# Altium schematic symbol library kmilo17pet-LT_OpAmp_LT1000.SchLib: 2280 symbols (part 68 of 79)
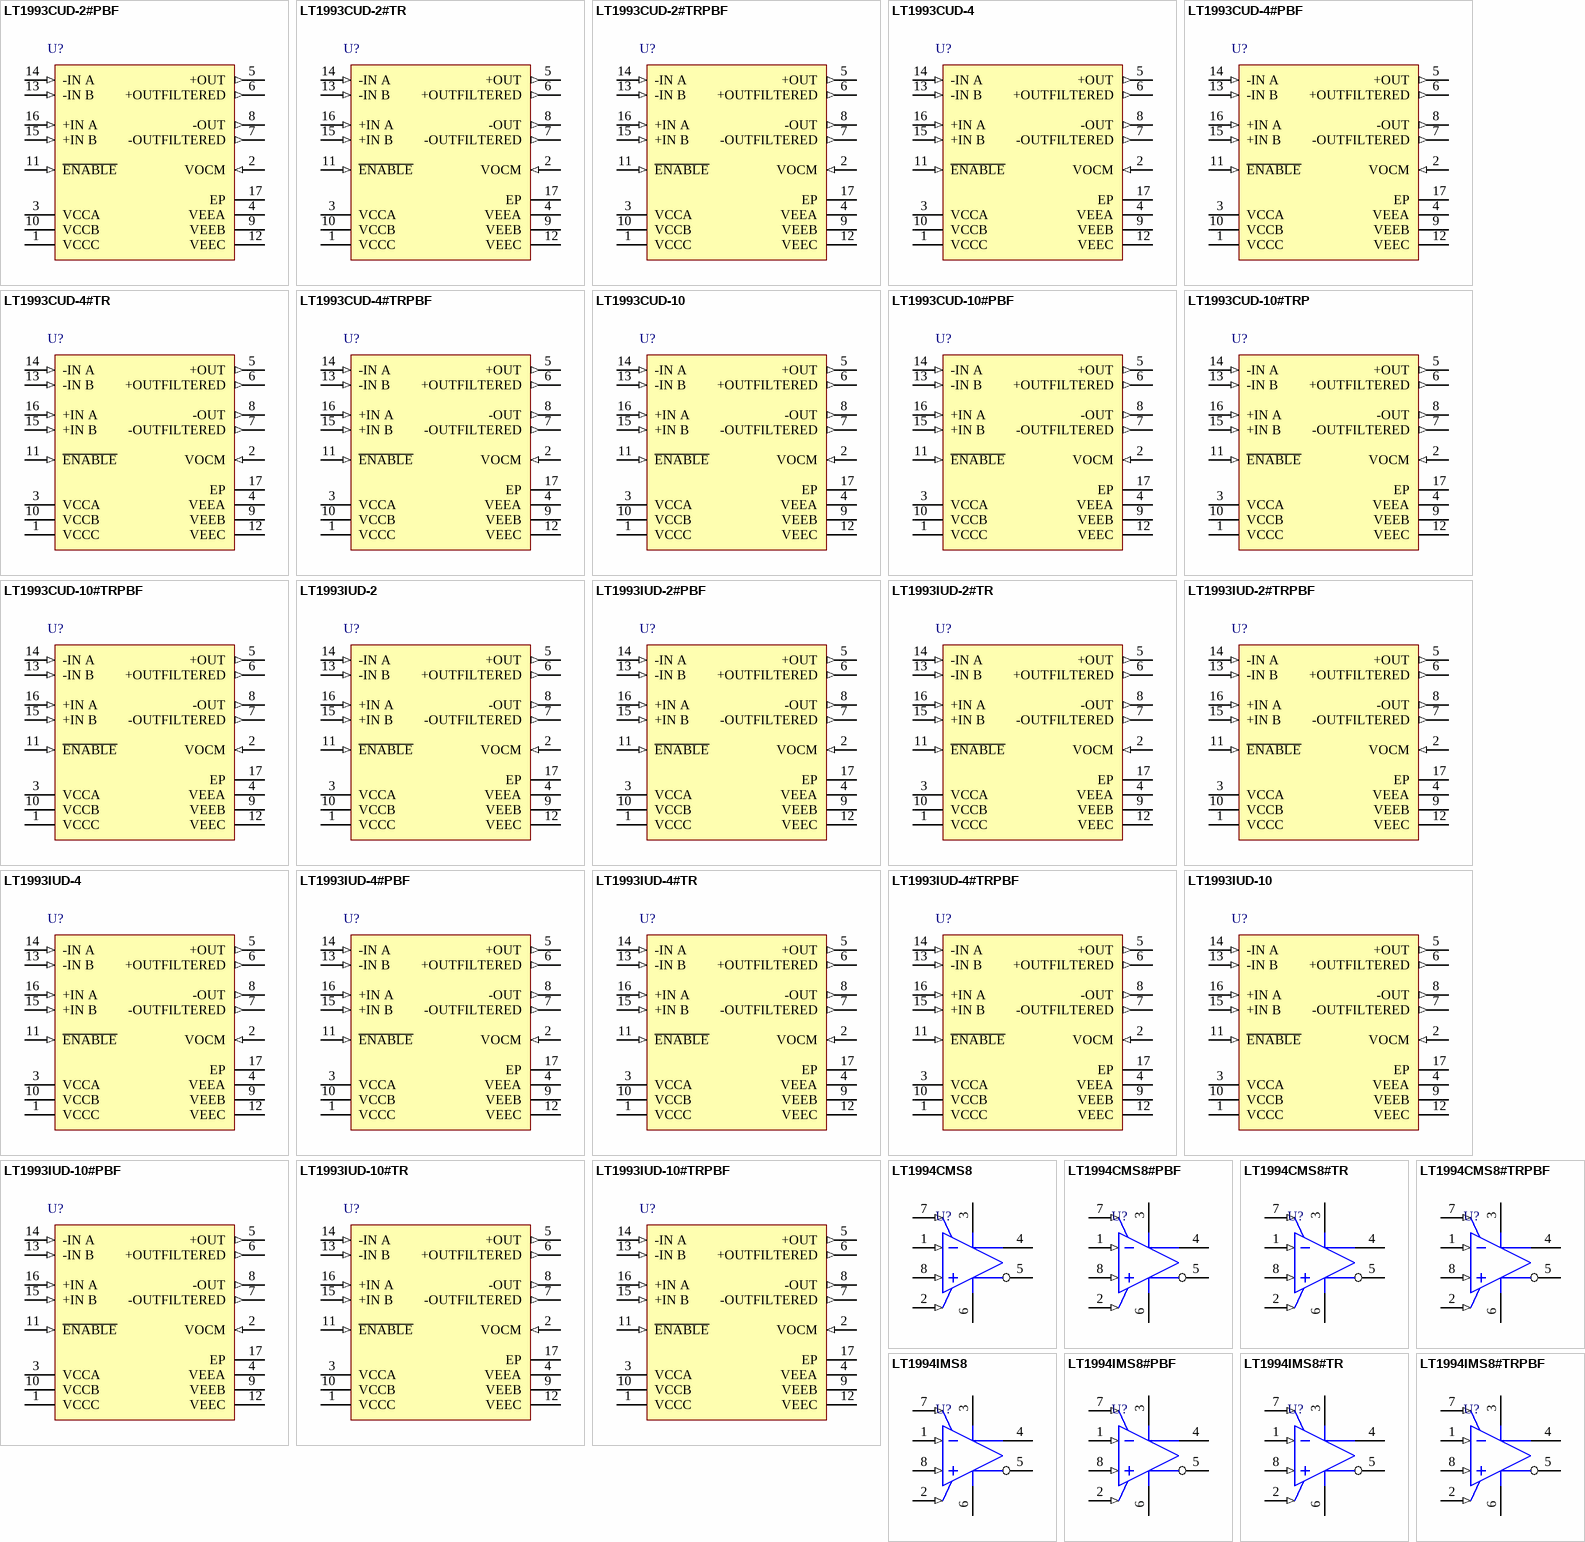
[diagram p172: symbols LT1993CUD-2#PBF to LT1994IMS8#TRPBF]

## LT1993IUD-10
designator U?
Single Channel, Low Distortion, Low Noise Differential Amplifier/ADC Driver, Av = 10, 700 MHz Typical GBW, 1100 V/us Typical SR, 4 to 5.5 V, 16-Pin QFN (UD-16), Industrial; Linear Technology Part Number: LT1993-10; Manufacturer: Linear Technology; PartNumber: LT1993IUD-10; Channels (#): 1; GBW (MHz) Typical: 700; Is (mA) Typical: 100; SR (V/us) Typical: 1100; Vos (mV) Guaranteed: 6.5; Vs Max (V): 5.5; Vs Min (V): 4; DatasheetVersion: Rev. B; PackageReference: LT-UD-16; PackageDescription: 16-Lead Plastic QFN, Body 3.00 x 3.00 mm, Pitch 0.5 mm; Type: DIFF; Vos (mV) Typical: 1; Mounting Technology: Surface Mount; Code_JEDEC: MO-220; ComponentLink1Description: Manufacturer URL; ComponentLink1URL: http://www.linear.com/; ComponentLink2Description: Datasheet; ComponentLink2URL: http://cds.linear.com/docs/en/datasheet/199310fb.pdf; ComponentLink3Description: Package Specification; ComponentLink3URL: http://cds.linear.com/docs/en/packaging/QFN_16_05-08-1691.pdf
footprint LT-UD-16_N (QFN, 16-Leads, Body 3x3mm, Pitch 0.5mm, Thermal Pad 1.45x1.45mm, IPC Medium Density)
footprint LT-UD-16_L (QFN, 16-Leads, Body 3x3mm, Pitch 0.5mm, Thermal Pad 1.45x1.45mm, IPC High Density)
footprint LT-UD-16_M (QFN, 16-Leads, Body 3x3mm, Pitch 0.5mm, Thermal Pad 1.45x1.45mm, IPC Low Density)
pins: 1 VCCC (power) "Positive Power Supply (Normally Tied to 5V). All three pins must be tied to the same voltage. Bypass each pin with 1000pF and 0.1uF capacitors as close to the package as possible. Split supplies are possible as long as the (See Datasheet)", 2 VOCM (in) "This pin sets the output common mode voltage. Without additional biasing, both inputs bias to this voltage as well. This input is high impedance.", 3 VCCA (power) "Positive Power Supply (Normally Tied to 5V). All three pins must be tied to the same voltage. Bypass each pin with 1000pF and 0.1uF capacitors as close to the package as possible. Split supplies are possible as long as the (See Datasheet)", 4 VEEA (power) "Negative Power Supply (Normally Tied to Ground). All three pins must be tied to the same voltage. Split supplies are possible as long as the voltage between VCC and VEE is 5V. If these pins are not tied to ground, bypass (See Datasheet)", 5 +OUT (out) "Outputs (Unfi ltered). These pins are high bandwidth, low-impedance outputs. The DC output voltage at these pins is set to the voltage applied at VOCM.", 6 +OUTFILTERED (out) "Filtered Outputs. These pins add a series 25ohm resistor from the unfi ltered outputs and three 12pF capacitors. Each output has 12pF to VEE, plus an additional 12pF between each pin (See the Block Diagram). This fi lter has (See Datasheet)", 7 -OUTFILTERED (out) "Filtered Outputs. These pins add a series 25ohm resistor from the unfi ltered outputs and three 12pF capacitors. Each output has 12pF to VEE, plus an additional 12pF between each pin (See the Block Diagram). This fi lter has (See Datasheet)", 8 -OUT (out) "Outputs (Unfi ltered). These pins are high bandwidth, low-impedance outputs. The DC output voltage at these pins is set to the voltage applied at VOCM.", 9 VEEB (power) "Negative Power Supply (Normally Tied to Ground). All three pins must be tied to the same voltage. Split supplies are possible as long as the voltage between VCC and VEE is 5V. If these pins are not tied to ground, bypass (See Datasheet)", 10 VCCB (power) "Positive Power Supply (Normally Tied to 5V). All three pins must be tied to the same voltage. Bypass each pin with 1000pF and 0.1uF capacitors as close to the package as possible. Split supplies are possible as long as the (See Datasheet)", 11 ~{ENABLE} (in) "This pin is a TTL logic input referenced to the VEEC pin. If low, the LT1993-10 is enabled and draws typically 100mA of supply current. If high, the LT1993-10 is disabled and draws typically 250uA.", 12 VEEC (power) "Negative Power Supply (Normally Tied to Ground). All three pins must be tied to the same voltage. Split supplies are possible as long as the voltage between VCC and VEE is 5V. If these pins are not tied to ground, bypass (See Datasheet)", 13 -IN B (in) "Negative Inputs. These pins are normally tied together. These inputs may be DC- or ACcoupled. If the inputs are AC-coupled, they will self-bias to the voltage applied to the VOCM pin.", 14 -IN A (in) "Negative Inputs. These pins are normally tied together. These inputs may be DC- or ACcoupled. If the inputs are AC-coupled, they will self-bias to the voltage applied to the VOCM pin.", 15 +IN B (in) "Positive Inputs. These pins are normally tied together. These inputs may be DC- or ACcoupled. If the inputs are AC-coupled, they will self-bias to the voltage applied to the VOCM pin.", 16 +IN A (in) "Positive Inputs. These pins are normally tied together. These inputs may be DC- or ACcoupled. If the inputs are AC-coupled, they will self-bias to the voltage applied to the VOCM pin.", 17 EP (power) "Tie the pad to VEEC (Pin 12). If split supplies are used, DO NOT tie the pad to ground."

## LT1993IUD-10#PBF
designator U?
Single Channel, Low Distortion, Low Noise Differential Amplifier/ADC Driver, Av = 10, 700 MHz Typical GBW, 1100 V/us Typical SR, 4 to 5.5 V, 16-Pin QFN (UD-16), Industrial, Pb-Free; Linear Technology Part Number: LT1993-10; Manufacturer: Linear Technology; PartNumber: LT1993IUD-10#PBF; Channels (#): 1; GBW (MHz) Typical: 700; Is (mA) Typical: 100; SR (V/us) Typical: 1100; Vos (mV) Guaranteed: 6.5; Vs Max (V): 5.5; Vs Min (V): 4; DatasheetVersion: Rev. B; PackageReference: LT-UD-16; PackageDescription: 16-Lead Plastic QFN, Body 3.00 x 3.00 mm, Pitch 0.5 mm; Supplier 1: Digi-Key; Supplier Part Number 1: LT1993IUD-10#PBF-ND; Supplier 2: Farnell; Supplier Part Number 2: 1345614; Supplier 3: Newark; Supplier Part Number 3: 57M7723; RoHS: Pb-Free; Type: DIFF; Vos (mV) Typical: 1; Mounting Technology: Surface Mount; Code_JEDEC: MO-220; ComponentLink1Description: Manufacturer URL; ComponentLink1URL: http://www.linear.com/; ComponentLink2Description: Datasheet; ComponentLink2URL: http://cds.linear.com/docs/en/datasheet/199310fb.pdf; ComponentLink3Description: Package Specification; ComponentLink3URL: http://cds.linear.com/docs/en/packaging/QFN_16_05-08-1691.pdf
footprint LT-UD-16_N (QFN, 16-Leads, Body 3x3mm, Pitch 0.5mm, Thermal Pad 1.45x1.45mm, IPC Medium Density)
footprint LT-UD-16_L (QFN, 16-Leads, Body 3x3mm, Pitch 0.5mm, Thermal Pad 1.45x1.45mm, IPC High Density)
footprint LT-UD-16_M (QFN, 16-Leads, Body 3x3mm, Pitch 0.5mm, Thermal Pad 1.45x1.45mm, IPC Low Density)
pins: 1 VCCC (power) "Positive Power Supply (Normally Tied to 5V). All three pins must be tied to the same voltage. Bypass each pin with 1000pF and 0.1uF capacitors as close to the package as possible. Split supplies are possible as long as the (See Datasheet)", 2 VOCM (in) "This pin sets the output common mode voltage. Without additional biasing, both inputs bias to this voltage as well. This input is high impedance.", 3 VCCA (power) "Positive Power Supply (Normally Tied to 5V). All three pins must be tied to the same voltage. Bypass each pin with 1000pF and 0.1uF capacitors as close to the package as possible. Split supplies are possible as long as the (See Datasheet)", 4 VEEA (power) "Negative Power Supply (Normally Tied to Ground). All three pins must be tied to the same voltage. Split supplies are possible as long as the voltage between VCC and VEE is 5V. If these pins are not tied to ground, bypass (See Datasheet)", 5 +OUT (out) "Outputs (Unfi ltered). These pins are high bandwidth, low-impedance outputs. The DC output voltage at these pins is set to the voltage applied at VOCM.", 6 +OUTFILTERED (out) "Filtered Outputs. These pins add a series 25ohm resistor from the unfi ltered outputs and three 12pF capacitors. Each output has 12pF to VEE, plus an additional 12pF between each pin (See the Block Diagram). This fi lter has (See Datasheet)", 7 -OUTFILTERED (out) "Filtered Outputs. These pins add a series 25ohm resistor from the unfi ltered outputs and three 12pF capacitors. Each output has 12pF to VEE, plus an additional 12pF between each pin (See the Block Diagram). This fi lter has (See Datasheet)", 8 -OUT (out) "Outputs (Unfi ltered). These pins are high bandwidth, low-impedance outputs. The DC output voltage at these pins is set to the voltage applied at VOCM.", 9 VEEB (power) "Negative Power Supply (Normally Tied to Ground). All three pins must be tied to the same voltage. Split supplies are possible as long as the voltage between VCC and VEE is 5V. If these pins are not tied to ground, bypass (See Datasheet)", 10 VCCB (power) "Positive Power Supply (Normally Tied to 5V). All three pins must be tied to the same voltage. Bypass each pin with 1000pF and 0.1uF capacitors as close to the package as possible. Split supplies are possible as long as the (See Datasheet)", 11 ~{ENABLE} (in) "This pin is a TTL logic input referenced to the VEEC pin. If low, the LT1993-10 is enabled and draws typically 100mA of supply current. If high, the LT1993-10 is disabled and draws typically 250uA.", 12 VEEC (power) "Negative Power Supply (Normally Tied to Ground). All three pins must be tied to the same voltage. Split supplies are possible as long as the voltage between VCC and VEE is 5V. If these pins are not tied to ground, bypass (See Datasheet)", 13 -IN B (in) "Negative Inputs. These pins are normally tied together. These inputs may be DC- or ACcoupled. If the inputs are AC-coupled, they will self-bias to the voltage applied to the VOCM pin.", 14 -IN A (in) "Negative Inputs. These pins are normally tied together. These inputs may be DC- or ACcoupled. If the inputs are AC-coupled, they will self-bias to the voltage applied to the VOCM pin.", 15 +IN B (in) "Positive Inputs. These pins are normally tied together. These inputs may be DC- or ACcoupled. If the inputs are AC-coupled, they will self-bias to the voltage applied to the VOCM pin.", 16 +IN A (in) "Positive Inputs. These pins are normally tied together. These inputs may be DC- or ACcoupled. If the inputs are AC-coupled, they will self-bias to the voltage applied to the VOCM pin.", 17 EP (power) "Tie the pad to VEEC (Pin 12). If split supplies are used, DO NOT tie the pad to ground."

## LT1993IUD-10#TR
designator U?
Single Channel, Low Distortion, Low Noise Differential Amplifier/ADC Driver, Av = 10, 700 MHz Typical GBW, 1100 V/us Typical SR, 4 to 5.5 V, 16-Pin QFN (UD-16), Industrial, Reel; Linear Technology Part Number: LT1993-10; Manufacturer: Linear Technology; PartNumber: LT1993IUD-10#TR; Channels (#): 1; GBW (MHz) Typical: 700; Is (mA) Typical: 100; SR (V/us) Typical: 1100; Vos (mV) Guaranteed: 6.5; Vs Max (V): 5.5; Vs Min (V): 4; DatasheetVersion: Rev. B; PackageReference: LT-UD-16; PackageDescription: 16-Lead Plastic QFN, Body 3.00 x 3.00 mm, Pitch 0.5 mm; Packing: Reel; Type: DIFF; Vos (mV) Typical: 1; Mounting Technology: Surface Mount; Code_JEDEC: MO-220; ComponentLink1Description: Manufacturer URL; ComponentLink1URL: http://www.linear.com/; ComponentLink2Description: Datasheet; ComponentLink2URL: http://cds.linear.com/docs/en/datasheet/199310fb.pdf; ComponentLink3Description: Package Specification; ComponentLink3URL: http://cds.linear.com/docs/en/packaging/QFN_16_05-08-1691.pdf
footprint LT-UD-16_N (QFN, 16-Leads, Body 3x3mm, Pitch 0.5mm, Thermal Pad 1.45x1.45mm, IPC Medium Density)
footprint LT-UD-16_L (QFN, 16-Leads, Body 3x3mm, Pitch 0.5mm, Thermal Pad 1.45x1.45mm, IPC High Density)
footprint LT-UD-16_M (QFN, 16-Leads, Body 3x3mm, Pitch 0.5mm, Thermal Pad 1.45x1.45mm, IPC Low Density)
pins: 1 VCCC (power) "Positive Power Supply (Normally Tied to 5V). All three pins must be tied to the same voltage. Bypass each pin with 1000pF and 0.1uF capacitors as close to the package as possible. Split supplies are possible as long as the (See Datasheet)", 2 VOCM (in) "This pin sets the output common mode voltage. Without additional biasing, both inputs bias to this voltage as well. This input is high impedance.", 3 VCCA (power) "Positive Power Supply (Normally Tied to 5V). All three pins must be tied to the same voltage. Bypass each pin with 1000pF and 0.1uF capacitors as close to the package as possible. Split supplies are possible as long as the (See Datasheet)", 4 VEEA (power) "Negative Power Supply (Normally Tied to Ground). All three pins must be tied to the same voltage. Split supplies are possible as long as the voltage between VCC and VEE is 5V. If these pins are not tied to ground, bypass (See Datasheet)", 5 +OUT (out) "Outputs (Unfi ltered). These pins are high bandwidth, low-impedance outputs. The DC output voltage at these pins is set to the voltage applied at VOCM.", 6 +OUTFILTERED (out) "Filtered Outputs. These pins add a series 25ohm resistor from the unfi ltered outputs and three 12pF capacitors. Each output has 12pF to VEE, plus an additional 12pF between each pin (See the Block Diagram). This fi lter has (See Datasheet)", 7 -OUTFILTERED (out) "Filtered Outputs. These pins add a series 25ohm resistor from the unfi ltered outputs and three 12pF capacitors. Each output has 12pF to VEE, plus an additional 12pF between each pin (See the Block Diagram). This fi lter has (See Datasheet)", 8 -OUT (out) "Outputs (Unfi ltered). These pins are high bandwidth, low-impedance outputs. The DC output voltage at these pins is set to the voltage applied at VOCM.", 9 VEEB (power) "Negative Power Supply (Normally Tied to Ground). All three pins must be tied to the same voltage. Split supplies are possible as long as the voltage between VCC and VEE is 5V. If these pins are not tied to ground, bypass (See Datasheet)", 10 VCCB (power) "Positive Power Supply (Normally Tied to 5V). All three pins must be tied to the same voltage. Bypass each pin with 1000pF and 0.1uF capacitors as close to the package as possible. Split supplies are possible as long as the (See Datasheet)", 11 ~{ENABLE} (in) "This pin is a TTL logic input referenced to the VEEC pin. If low, the LT1993-10 is enabled and draws typically 100mA of supply current. If high, the LT1993-10 is disabled and draws typically 250uA.", 12 VEEC (power) "Negative Power Supply (Normally Tied to Ground). All three pins must be tied to the same voltage. Split supplies are possible as long as the voltage between VCC and VEE is 5V. If these pins are not tied to ground, bypass (See Datasheet)", 13 -IN B (in) "Negative Inputs. These pins are normally tied together. These inputs may be DC- or ACcoupled. If the inputs are AC-coupled, they will self-bias to the voltage applied to the VOCM pin.", 14 -IN A (in) "Negative Inputs. These pins are normally tied together. These inputs may be DC- or ACcoupled. If the inputs are AC-coupled, they will self-bias to the voltage applied to the VOCM pin.", 15 +IN B (in) "Positive Inputs. These pins are normally tied together. These inputs may be DC- or ACcoupled. If the inputs are AC-coupled, they will self-bias to the voltage applied to the VOCM pin.", 16 +IN A (in) "Positive Inputs. These pins are normally tied together. These inputs may be DC- or ACcoupled. If the inputs are AC-coupled, they will self-bias to the voltage applied to the VOCM pin.", 17 EP (power) "Tie the pad to VEEC (Pin 12). If split supplies are used, DO NOT tie the pad to ground."

## LT1993IUD-10#TRPBF
designator U?
Single Channel, Low Distortion, Low Noise Differential Amplifier/ADC Driver, Av = 10, 700 MHz Typical GBW, 1100 V/us Typical SR, 4 to 5.5 V, 16-Pin QFN (UD-16), Industrial, Pb-Free, Reel; Linear Technology Part Number: LT1993-10; Manufacturer: Linear Technology; PartNumber: LT1993IUD-10#TRPBF; Channels (#): 1; GBW (MHz) Typical: 700; Is (mA) Typical: 100; SR (V/us) Typical: 1100; Vos (mV) Guaranteed: 6.5; Vs Max (V): 5.5; Vs Min (V): 4; DatasheetVersion: Rev. B; PackageReference: LT-UD-16; PackageDescription: 16-Lead Plastic QFN, Body 3.00 x 3.00 mm, Pitch 0.5 mm; Supplier 1: Digi-Key; Supplier Part Number 1: LT1993IUD-10#TRPBF-ND; Packing: Reel; RoHS: Pb-Free; Type: DIFF; Vos (mV) Typical: 1; Mounting Technology: Surface Mount; Code_JEDEC: MO-220; ComponentLink1Description: Manufacturer URL; ComponentLink1URL: http://www.linear.com/; ComponentLink2Description: Datasheet; ComponentLink2URL: http://cds.linear.com/docs/en/datasheet/199310fb.pdf; ComponentLink3Description: Package Specification; ComponentLink3URL: http://cds.linear.com/docs/en/packaging/QFN_16_05-08-1691.pdf
footprint LT-UD-16_N (QFN, 16-Leads, Body 3x3mm, Pitch 0.5mm, Thermal Pad 1.45x1.45mm, IPC Medium Density)
footprint LT-UD-16_L (QFN, 16-Leads, Body 3x3mm, Pitch 0.5mm, Thermal Pad 1.45x1.45mm, IPC High Density)
footprint LT-UD-16_M (QFN, 16-Leads, Body 3x3mm, Pitch 0.5mm, Thermal Pad 1.45x1.45mm, IPC Low Density)
pins: 1 VCCC (power) "Positive Power Supply (Normally Tied to 5V). All three pins must be tied to the same voltage. Bypass each pin with 1000pF and 0.1uF capacitors as close to the package as possible. Split supplies are possible as long as the (See Datasheet)", 2 VOCM (in) "This pin sets the output common mode voltage. Without additional biasing, both inputs bias to this voltage as well. This input is high impedance.", 3 VCCA (power) "Positive Power Supply (Normally Tied to 5V). All three pins must be tied to the same voltage. Bypass each pin with 1000pF and 0.1uF capacitors as close to the package as possible. Split supplies are possible as long as the (See Datasheet)", 4 VEEA (power) "Negative Power Supply (Normally Tied to Ground). All three pins must be tied to the same voltage. Split supplies are possible as long as the voltage between VCC and VEE is 5V. If these pins are not tied to ground, bypass (See Datasheet)", 5 +OUT (out) "Outputs (Unfi ltered). These pins are high bandwidth, low-impedance outputs. The DC output voltage at these pins is set to the voltage applied at VOCM.", 6 +OUTFILTERED (out) "Filtered Outputs. These pins add a series 25ohm resistor from the unfi ltered outputs and three 12pF capacitors. Each output has 12pF to VEE, plus an additional 12pF between each pin (See the Block Diagram). This fi lter has (See Datasheet)", 7 -OUTFILTERED (out) "Filtered Outputs. These pins add a series 25ohm resistor from the unfi ltered outputs and three 12pF capacitors. Each output has 12pF to VEE, plus an additional 12pF between each pin (See the Block Diagram). This fi lter has (See Datasheet)", 8 -OUT (out) "Outputs (Unfi ltered). These pins are high bandwidth, low-impedance outputs. The DC output voltage at these pins is set to the voltage applied at VOCM.", 9 VEEB (power) "Negative Power Supply (Normally Tied to Ground). All three pins must be tied to the same voltage. Split supplies are possible as long as the voltage between VCC and VEE is 5V. If these pins are not tied to ground, bypass (See Datasheet)", 10 VCCB (power) "Positive Power Supply (Normally Tied to 5V). All three pins must be tied to the same voltage. Bypass each pin with 1000pF and 0.1uF capacitors as close to the package as possible. Split supplies are possible as long as the (See Datasheet)", 11 ~{ENABLE} (in) "This pin is a TTL logic input referenced to the VEEC pin. If low, the LT1993-10 is enabled and draws typically 100mA of supply current. If high, the LT1993-10 is disabled and draws typically 250uA.", 12 VEEC (power) "Negative Power Supply (Normally Tied to Ground). All three pins must be tied to the same voltage. Split supplies are possible as long as the voltage between VCC and VEE is 5V. If these pins are not tied to ground, bypass (See Datasheet)", 13 -IN B (in) "Negative Inputs. These pins are normally tied together. These inputs may be DC- or ACcoupled. If the inputs are AC-coupled, they will self-bias to the voltage applied to the VOCM pin.", 14 -IN A (in) "Negative Inputs. These pins are normally tied together. These inputs may be DC- or ACcoupled. If the inputs are AC-coupled, they will self-bias to the voltage applied to the VOCM pin.", 15 +IN B (in) "Positive Inputs. These pins are normally tied together. These inputs may be DC- or ACcoupled. If the inputs are AC-coupled, they will self-bias to the voltage applied to the VOCM pin.", 16 +IN A (in) "Positive Inputs. These pins are normally tied together. These inputs may be DC- or ACcoupled. If the inputs are AC-coupled, they will self-bias to the voltage applied to the VOCM pin.", 17 EP (power) "Tie the pad to VEEC (Pin 12). If split supplies are used, DO NOT tie the pad to ground."

## LT1994CMS8
designator U?
Single Channel, Low Noise, Low Distortion Fully Differential Input / Output Amplifier / Driver, 70 MHz Typical GBW, 65 V/us Typical SR, 2.375 to 12.6 V, 8-Pin SOP (MS8-8), Commercial; Linear Technology Part Number: LT1994; Manufacturer: Linear Technology; PartNumber: LT1994CMS8; Channels (#): 1; GBW (MHz) Typical: 70; Is (mA) Typical: 13.3; SR (V/us) Typical: 65; Vos (mV) Guaranteed: 2; Vs Max (V): 12.6; Vs Min (V): 2.375; DatasheetVersion: Rev. B; PackageVersion: Rev G; PackageReference: LT-MS8-8; PackageDescription: 8-Lead Plastic Small Outline, Body 3.9 x 4.9 mm, Pitch 1.27 mm; Type: DIFF; Vos (mV) Typical: 2; Mounting Technology: Surface Mount; ComponentLink1Description: Manufacturer URL; ComponentLink1URL: http://www.linear.com/; ComponentLink2Description: Datasheet; ComponentLink2URL: http://cds.linear.com/docs/en/datasheet/1994fb.pdf; ComponentLink3Description: Package Specification; ComponentLink3URL: http://cds.linear.com/docs/en/packaging/05081610_G_SO8.pdf
footprint LT-MS8-8_N (SOP, 8-Leads, Body 3x3mm, Pitch 0.65mm, IPC Medium Density)
footprint LT-MS8-8_L (SOP, 8-Leads, Body 3x3mm, Pitch 0.65mm, IPC High Density)
footprint LT-MS8-8_M (SOP, 8-Leads, Body 3x3mm, Pitch 0.65mm, IPC Low Density)
pins: 1 IN- (in) "Noninverting and Inverting Input Pins of the Amplifier, Respectively. For best performance, it is highly recommended that stray capacitance be kept to an absolute minimum by keeping printed circuit connections as short as (See Datasheet)", 2 VOCM (in) "Output Common Mode Reference Voltage. The VOCM pin is the midpoint of an internal resistive voltage divider between the supplies, developing a (default) mid-supply voltage potential to maximize output signal swing. VOCM has (See Datasheet)", 3 V+ (power) "Power Supply Pins. For single-supply applications (Pin 6 grounded) it is recommended that high quality 1uF and 0.1uF ceramic bypass capacitors be placed from the positive supply pin (Pin 3) to the negative supply pin (Pin 6) (See Datasheet)", 4 OUT+ (oc) "Output Pins. Each pin can drive approximately 100ohm to ground with a short-circuit current limit of up to +/-85mA. Each amplifi er output is designed to drive a load capacitance of 25pF. This basically means the amplifi er (See Datasheet)", 5 OUT- (oc) "Output Pins. Each pin can drive approximately 100ohm to ground with a short-circuit current limit of up to +/-85mA. Each amplifi er output is designed to drive a load capacitance of 25pF. This basically means the amplifi er (See Datasheet)", 6 V- (power) "Power Supply Pins. For single-supply applications (Pin 6 grounded) it is recommended that high quality 1uF and 0.1uF ceramic bypass capacitors be placed from the positive supply pin (Pin 3) to the negative supply pin (Pin 6) (See Datasheet)", 7 ~{SHDN} (in) "When Pin 7 (SHDN) is floating or when Pin 7 is directly tied to V+, the LT1994 is in the normal operating mode. When Pin 7 is pulled a minimum of 2.1V below V+, the LT1994 enters into a low power shutdown state. Refer to the (See Datasheet)", 8 IN+ (in) "Noninverting and Inverting Input Pins of the Amplifier, Respectively. For best performance, it is highly recommended that stray capacitance be kept to an absolute minimum by keeping printed circuit connections as short as (See Datasheet)"

## LT1994CMS8#PBF
designator U?
Single Channel, Low Noise, Low Distortion Fully Differential Input / Output Amplifier / Driver, 70 MHz Typical GBW, 65 V/us Typical SR, 2.375 to 12.6 V, 8-Pin SOP (MS8-8), Commercial, Pb-Free; Linear Technology Part Number: LT1994; Manufacturer: Linear Technology; PartNumber: LT1994CMS8#PBF; Channels (#): 1; GBW (MHz) Typical: 70; Is (mA) Typical: 13.3; SR (V/us) Typical: 65; Vos (mV) Guaranteed: 2; Vs Max (V): 12.6; Vs Min (V): 2.375; DatasheetVersion: Rev. B; PackageVersion: Rev G; PackageReference: LT-MS8-8; PackageDescription: 8-Lead Plastic Small Outline, Body 3.9 x 4.9 mm, Pitch 1.27 mm; Supplier 1: Digi-Key; Supplier Part Number 1: LT1994CMS8#PBF-ND; Supplier 2: Farnell; Supplier Part Number 2: 1330736; Supplier 3: Newark; Supplier Part Number 3: 57M7739; RoHS: Pb-Free; Type: DIFF; Vos (mV) Typical: 2; Mounting Technology: Surface Mount; ComponentLink1Description: Manufacturer URL; ComponentLink1URL: http://www.linear.com/; ComponentLink2Description: Datasheet; ComponentLink2URL: http://cds.linear.com/docs/en/datasheet/1994fb.pdf; ComponentLink3Description: Package Specification; ComponentLink3URL: http://cds.linear.com/docs/en/packaging/05081610_G_SO8.pdf
footprint LT-MS8-8_N (SOP, 8-Leads, Body 3x3mm, Pitch 0.65mm, IPC Medium Density)
footprint LT-MS8-8_L (SOP, 8-Leads, Body 3x3mm, Pitch 0.65mm, IPC High Density)
footprint LT-MS8-8_M (SOP, 8-Leads, Body 3x3mm, Pitch 0.65mm, IPC Low Density)
pins: 1 IN- (in) "Noninverting and Inverting Input Pins of the Amplifier, Respectively. For best performance, it is highly recommended that stray capacitance be kept to an absolute minimum by keeping printed circuit connections as short as (See Datasheet)", 2 VOCM (in) "Output Common Mode Reference Voltage. The VOCM pin is the midpoint of an internal resistive voltage divider between the supplies, developing a (default) mid-supply voltage potential to maximize output signal swing. VOCM has (See Datasheet)", 3 V+ (power) "Power Supply Pins. For single-supply applications (Pin 6 grounded) it is recommended that high quality 1uF and 0.1uF ceramic bypass capacitors be placed from the positive supply pin (Pin 3) to the negative supply pin (Pin 6) (See Datasheet)", 4 OUT+ (oc) "Output Pins. Each pin can drive approximately 100ohm to ground with a short-circuit current limit of up to +/-85mA. Each amplifi er output is designed to drive a load capacitance of 25pF. This basically means the amplifi er (See Datasheet)", 5 OUT- (oc) "Output Pins. Each pin can drive approximately 100ohm to ground with a short-circuit current limit of up to +/-85mA. Each amplifi er output is designed to drive a load capacitance of 25pF. This basically means the amplifi er (See Datasheet)", 6 V- (power) "Power Supply Pins. For single-supply applications (Pin 6 grounded) it is recommended that high quality 1uF and 0.1uF ceramic bypass capacitors be placed from the positive supply pin (Pin 3) to the negative supply pin (Pin 6) (See Datasheet)", 7 ~{SHDN} (in) "When Pin 7 (SHDN) is floating or when Pin 7 is directly tied to V+, the LT1994 is in the normal operating mode. When Pin 7 is pulled a minimum of 2.1V below V+, the LT1994 enters into a low power shutdown state. Refer to the (See Datasheet)", 8 IN+ (in) "Noninverting and Inverting Input Pins of the Amplifier, Respectively. For best performance, it is highly recommended that stray capacitance be kept to an absolute minimum by keeping printed circuit connections as short as (See Datasheet)"

## LT1994CMS8#TR
designator U?
Single Channel, Low Noise, Low Distortion Fully Differential Input / Output Amplifier / Driver, 70 MHz Typical GBW, 65 V/us Typical SR, 2.375 to 12.6 V, 8-Pin SOP (MS8-8), Commercial, Reel; Linear Technology Part Number: LT1994; Manufacturer: Linear Technology; PartNumber: LT1994CMS8#TR; Channels (#): 1; GBW (MHz) Typical: 70; Is (mA) Typical: 13.3; SR (V/us) Typical: 65; Vos (mV) Guaranteed: 2; Vs Max (V): 12.6; Vs Min (V): 2.375; DatasheetVersion: Rev. B; PackageVersion: Rev G; PackageReference: LT-MS8-8; PackageDescription: 8-Lead Plastic Small Outline, Body 3.9 x 4.9 mm, Pitch 1.27 mm; Supplier 1: Newark; Supplier Part Number 1: 57M7740; Packing: Reel; Type: DIFF; Vos (mV) Typical: 2; Mounting Technology: Surface Mount; ComponentLink1Description: Manufacturer URL; ComponentLink1URL: http://www.linear.com/; ComponentLink2Description: Datasheet; ComponentLink2URL: http://cds.linear.com/docs/en/datasheet/1994fb.pdf; ComponentLink3Description: Package Specification; ComponentLink3URL: http://cds.linear.com/docs/en/packaging/05081610_G_SO8.pdf
footprint LT-MS8-8_N (SOP, 8-Leads, Body 3x3mm, Pitch 0.65mm, IPC Medium Density)
footprint LT-MS8-8_L (SOP, 8-Leads, Body 3x3mm, Pitch 0.65mm, IPC High Density)
footprint LT-MS8-8_M (SOP, 8-Leads, Body 3x3mm, Pitch 0.65mm, IPC Low Density)
pins: 1 IN- (in) "Noninverting and Inverting Input Pins of the Amplifier, Respectively. For best performance, it is highly recommended that stray capacitance be kept to an absolute minimum by keeping printed circuit connections as short as (See Datasheet)", 2 VOCM (in) "Output Common Mode Reference Voltage. The VOCM pin is the midpoint of an internal resistive voltage divider between the supplies, developing a (default) mid-supply voltage potential to maximize output signal swing. VOCM has (See Datasheet)", 3 V+ (power) "Power Supply Pins. For single-supply applications (Pin 6 grounded) it is recommended that high quality 1uF and 0.1uF ceramic bypass capacitors be placed from the positive supply pin (Pin 3) to the negative supply pin (Pin 6) (See Datasheet)", 4 OUT+ (oc) "Output Pins. Each pin can drive approximately 100ohm to ground with a short-circuit current limit of up to +/-85mA. Each amplifi er output is designed to drive a load capacitance of 25pF. This basically means the amplifi er (See Datasheet)", 5 OUT- (oc) "Output Pins. Each pin can drive approximately 100ohm to ground with a short-circuit current limit of up to +/-85mA. Each amplifi er output is designed to drive a load capacitance of 25pF. This basically means the amplifi er (See Datasheet)", 6 V- (power) "Power Supply Pins. For single-supply applications (Pin 6 grounded) it is recommended that high quality 1uF and 0.1uF ceramic bypass capacitors be placed from the positive supply pin (Pin 3) to the negative supply pin (Pin 6) (See Datasheet)", 7 ~{SHDN} (in) "When Pin 7 (SHDN) is floating or when Pin 7 is directly tied to V+, the LT1994 is in the normal operating mode. When Pin 7 is pulled a minimum of 2.1V below V+, the LT1994 enters into a low power shutdown state. Refer to the (See Datasheet)", 8 IN+ (in) "Noninverting and Inverting Input Pins of the Amplifier, Respectively. For best performance, it is highly recommended that stray capacitance be kept to an absolute minimum by keeping printed circuit connections as short as (See Datasheet)"

## LT1994CMS8#TRPBF
designator U?
Single Channel, Low Noise, Low Distortion Fully Differential Input / Output Amplifier / Driver, 70 MHz Typical GBW, 65 V/us Typical SR, 2.375 to 12.6 V, 8-Pin SOP (MS8-8), Commercial, Pb-Free, Reel; Linear Technology Part Number: LT1994; Manufacturer: Linear Technology; PartNumber: LT1994CMS8#TRPBF; Channels (#): 1; GBW (MHz) Typical: 70; Is (mA) Typical: 13.3; SR (V/us) Typical: 65; Vos (mV) Guaranteed: 2; Vs Max (V): 12.6; Vs Min (V): 2.375; DatasheetVersion: Rev. B; PackageVersion: Rev G; PackageReference: LT-MS8-8; PackageDescription: 8-Lead Plastic Small Outline, Body 3.9 x 4.9 mm, Pitch 1.27 mm; Supplier 1: Digi-Key; Supplier Part Number 1: LT1994CMS8#TRPBF-ND; Supplier 2: Newark; Supplier Part Number 2: 57M7741; Packing: Reel; RoHS: Pb-Free; Type: DIFF; Vos (mV) Typical: 2; Mounting Technology: Surface Mount; ComponentLink1Description: Manufacturer URL; ComponentLink1URL: http://www.linear.com/; ComponentLink2Description: Datasheet; ComponentLink2URL: http://cds.linear.com/docs/en/datasheet/1994fb.pdf; ComponentLink3Description: Package Specification; ComponentLink3URL: http://cds.linear.com/docs/en/packaging/05081610_G_SO8.pdf
footprint LT-MS8-8_N (SOP, 8-Leads, Body 3x3mm, Pitch 0.65mm, IPC Medium Density)
footprint LT-MS8-8_L (SOP, 8-Leads, Body 3x3mm, Pitch 0.65mm, IPC High Density)
footprint LT-MS8-8_M (SOP, 8-Leads, Body 3x3mm, Pitch 0.65mm, IPC Low Density)
pins: 1 IN- (in) "Noninverting and Inverting Input Pins of the Amplifier, Respectively. For best performance, it is highly recommended that stray capacitance be kept to an absolute minimum by keeping printed circuit connections as short as (See Datasheet)", 2 VOCM (in) "Output Common Mode Reference Voltage. The VOCM pin is the midpoint of an internal resistive voltage divider between the supplies, developing a (default) mid-supply voltage potential to maximize output signal swing. VOCM has (See Datasheet)", 3 V+ (power) "Power Supply Pins. For single-supply applications (Pin 6 grounded) it is recommended that high quality 1uF and 0.1uF ceramic bypass capacitors be placed from the positive supply pin (Pin 3) to the negative supply pin (Pin 6) (See Datasheet)", 4 OUT+ (oc) "Output Pins. Each pin can drive approximately 100ohm to ground with a short-circuit current limit of up to +/-85mA. Each amplifi er output is designed to drive a load capacitance of 25pF. This basically means the amplifi er (See Datasheet)", 5 OUT- (oc) "Output Pins. Each pin can drive approximately 100ohm to ground with a short-circuit current limit of up to +/-85mA. Each amplifi er output is designed to drive a load capacitance of 25pF. This basically means the amplifi er (See Datasheet)", 6 V- (power) "Power Supply Pins. For single-supply applications (Pin 6 grounded) it is recommended that high quality 1uF and 0.1uF ceramic bypass capacitors be placed from the positive supply pin (Pin 3) to the negative supply pin (Pin 6) (See Datasheet)", 7 ~{SHDN} (in) "When Pin 7 (SHDN) is floating or when Pin 7 is directly tied to V+, the LT1994 is in the normal operating mode. When Pin 7 is pulled a minimum of 2.1V below V+, the LT1994 enters into a low power shutdown state. Refer to the (See Datasheet)", 8 IN+ (in) "Noninverting and Inverting Input Pins of the Amplifier, Respectively. For best performance, it is highly recommended that stray capacitance be kept to an absolute minimum by keeping printed circuit connections as short as (See Datasheet)"

## LT1994IMS8
designator U?
Single Channel, Low Noise, Low Distortion Fully Differential Input / Output Amplifier / Driver, 70 MHz Typical GBW, 65 V/us Typical SR, 2.375 to 12.6 V, 8-Pin SOP (MS8-8), Industrial; Linear Technology Part Number: LT1994; Manufacturer: Linear Technology; PartNumber: LT1994IMS8; Channels (#): 1; GBW (MHz) Typical: 70; Is (mA) Typical: 13.3; SR (V/us) Typical: 65; Vos (mV) Guaranteed: 2; Vs Max (V): 12.6; Vs Min (V): 2.375; DatasheetVersion: Rev. B; PackageVersion: Rev G; PackageReference: LT-MS8-8; PackageDescription: 8-Lead Plastic Small Outline, Body 3.9 x 4.9 mm, Pitch 1.27 mm; Type: DIFF; Vos (mV) Typical: 2; Mounting Technology: Surface Mount; ComponentLink1Description: Manufacturer URL; ComponentLink1URL: http://www.linear.com/; ComponentLink2Description: Datasheet; ComponentLink2URL: http://cds.linear.com/docs/en/datasheet/1994fb.pdf; ComponentLink3Description: Package Specification; ComponentLink3URL: http://cds.linear.com/docs/en/packaging/05081610_G_SO8.pdf
footprint LT-MS8-8_N (SOP, 8-Leads, Body 3x3mm, Pitch 0.65mm, IPC Medium Density)
footprint LT-MS8-8_L (SOP, 8-Leads, Body 3x3mm, Pitch 0.65mm, IPC High Density)
footprint LT-MS8-8_M (SOP, 8-Leads, Body 3x3mm, Pitch 0.65mm, IPC Low Density)
pins: 1 IN- (in) "Noninverting and Inverting Input Pins of the Amplifier, Respectively. For best performance, it is highly recommended that stray capacitance be kept to an absolute minimum by keeping printed circuit connections as short as (See Datasheet)", 2 VOCM (in) "Output Common Mode Reference Voltage. The VOCM pin is the midpoint of an internal resistive voltage divider between the supplies, developing a (default) mid-supply voltage potential to maximize output signal swing. VOCM has (See Datasheet)", 3 V+ (power) "Power Supply Pins. For single-supply applications (Pin 6 grounded) it is recommended that high quality 1uF and 0.1uF ceramic bypass capacitors be placed from the positive supply pin (Pin 3) to the negative supply pin (Pin 6) (See Datasheet)", 4 OUT+ (oc) "Output Pins. Each pin can drive approximately 100ohm to ground with a short-circuit current limit of up to +/-85mA. Each amplifi er output is designed to drive a load capacitance of 25pF. This basically means the amplifi er (See Datasheet)", 5 OUT- (oc) "Output Pins. Each pin can drive approximately 100ohm to ground with a short-circuit current limit of up to +/-85mA. Each amplifi er output is designed to drive a load capacitance of 25pF. This basically means the amplifi er (See Datasheet)", 6 V- (power) "Power Supply Pins. For single-supply applications (Pin 6 grounded) it is recommended that high quality 1uF and 0.1uF ceramic bypass capacitors be placed from the positive supply pin (Pin 3) to the negative supply pin (Pin 6) (See Datasheet)", 7 ~{SHDN} (in) "When Pin 7 (SHDN) is floating or when Pin 7 is directly tied to V+, the LT1994 is in the normal operating mode. When Pin 7 is pulled a minimum of 2.1V below V+, the LT1994 enters into a low power shutdown state. Refer to the (See Datasheet)", 8 IN+ (in) "Noninverting and Inverting Input Pins of the Amplifier, Respectively. For best performance, it is highly recommended that stray capacitance be kept to an absolute minimum by keeping printed circuit connections as short as (See Datasheet)"

## LT1994IMS8#PBF
designator U?
Single Channel, Low Noise, Low Distortion Fully Differential Input / Output Amplifier / Driver, 70 MHz Typical GBW, 65 V/us Typical SR, 2.375 to 12.6 V, 8-Pin SOP (MS8-8), Industrial, Pb-Free; Linear Technology Part Number: LT1994; Manufacturer: Linear Technology; PartNumber: LT1994IMS8#PBF; Channels (#): 1; GBW (MHz) Typical: 70; Is (mA) Typical: 13.3; SR (V/us) Typical: 65; Vos (mV) Guaranteed: 2; Vs Max (V): 12.6; Vs Min (V): 2.375; DatasheetVersion: Rev. B; PackageVersion: Rev G; PackageReference: LT-MS8-8; PackageDescription: 8-Lead Plastic Small Outline, Body 3.9 x 4.9 mm, Pitch 1.27 mm; Supplier 1: Digi-Key; Supplier Part Number 1: LT1994IMS8#PBF-ND; Supplier 2: Farnell; Supplier Part Number 2: 1345613; Supplier 3: Newark; Supplier Part Number 3: 57M7747; RoHS: Pb-Free; Type: DIFF; Vos (mV) Typical: 2; Mounting Technology: Surface Mount; ComponentLink1Description: Manufacturer URL; ComponentLink1URL: http://www.linear.com/; ComponentLink2Description: Datasheet; ComponentLink2URL: http://cds.linear.com/docs/en/datasheet/1994fb.pdf; ComponentLink3Description: Package Specification; ComponentLink3URL: http://cds.linear.com/docs/en/packaging/05081610_G_SO8.pdf
footprint LT-MS8-8_N (SOP, 8-Leads, Body 3x3mm, Pitch 0.65mm, IPC Medium Density)
footprint LT-MS8-8_L (SOP, 8-Leads, Body 3x3mm, Pitch 0.65mm, IPC High Density)
footprint LT-MS8-8_M (SOP, 8-Leads, Body 3x3mm, Pitch 0.65mm, IPC Low Density)
pins: 1 IN- (in) "Noninverting and Inverting Input Pins of the Amplifier, Respectively. For best performance, it is highly recommended that stray capacitance be kept to an absolute minimum by keeping printed circuit connections as short as (See Datasheet)", 2 VOCM (in) "Output Common Mode Reference Voltage. The VOCM pin is the midpoint of an internal resistive voltage divider between the supplies, developing a (default) mid-supply voltage potential to maximize output signal swing. VOCM has (See Datasheet)", 3 V+ (power) "Power Supply Pins. For single-supply applications (Pin 6 grounded) it is recommended that high quality 1uF and 0.1uF ceramic bypass capacitors be placed from the positive supply pin (Pin 3) to the negative supply pin (Pin 6) (See Datasheet)", 4 OUT+ (oc) "Output Pins. Each pin can drive approximately 100ohm to ground with a short-circuit current limit of up to +/-85mA. Each amplifi er output is designed to drive a load capacitance of 25pF. This basically means the amplifi er (See Datasheet)", 5 OUT- (oc) "Output Pins. Each pin can drive approximately 100ohm to ground with a short-circuit current limit of up to +/-85mA. Each amplifi er output is designed to drive a load capacitance of 25pF. This basically means the amplifi er (See Datasheet)", 6 V- (power) "Power Supply Pins. For single-supply applications (Pin 6 grounded) it is recommended that high quality 1uF and 0.1uF ceramic bypass capacitors be placed from the positive supply pin (Pin 3) to the negative supply pin (Pin 6) (See Datasheet)", 7 ~{SHDN} (in) "When Pin 7 (SHDN) is floating or when Pin 7 is directly tied to V+, the LT1994 is in the normal operating mode. When Pin 7 is pulled a minimum of 2.1V below V+, the LT1994 enters into a low power shutdown state. Refer to the (See Datasheet)", 8 IN+ (in) "Noninverting and Inverting Input Pins of the Amplifier, Respectively. For best performance, it is highly recommended that stray capacitance be kept to an absolute minimum by keeping printed circuit connections as short as (See Datasheet)"

## LT1994IMS8#TR
designator U?
Single Channel, Low Noise, Low Distortion Fully Differential Input / Output Amplifier / Driver, 70 MHz Typical GBW, 65 V/us Typical SR, 2.375 to 12.6 V, 8-Pin SOP (MS8-8), Industrial, Reel; Linear Technology Part Number: LT1994; Manufacturer: Linear Technology; PartNumber: LT1994IMS8#TR; Channels (#): 1; GBW (MHz) Typical: 70; Is (mA) Typical: 13.3; SR (V/us) Typical: 65; Vos (mV) Guaranteed: 2; Vs Max (V): 12.6; Vs Min (V): 2.375; DatasheetVersion: Rev. B; PackageVersion: Rev G; PackageReference: LT-MS8-8; PackageDescription: 8-Lead Plastic Small Outline, Body 3.9 x 4.9 mm, Pitch 1.27 mm; Packing: Reel; Type: DIFF; Vos (mV) Typical: 2; Mounting Technology: Surface Mount; ComponentLink1Description: Manufacturer URL; ComponentLink1URL: http://www.linear.com/; ComponentLink2Description: Datasheet; ComponentLink2URL: http://cds.linear.com/docs/en/datasheet/1994fb.pdf; ComponentLink3Description: Package Specification; ComponentLink3URL: http://cds.linear.com/docs/en/packaging/05081610_G_SO8.pdf
footprint LT-MS8-8_N (SOP, 8-Leads, Body 3x3mm, Pitch 0.65mm, IPC Medium Density)
footprint LT-MS8-8_L (SOP, 8-Leads, Body 3x3mm, Pitch 0.65mm, IPC High Density)
footprint LT-MS8-8_M (SOP, 8-Leads, Body 3x3mm, Pitch 0.65mm, IPC Low Density)
pins: 1 IN- (in) "Noninverting and Inverting Input Pins of the Amplifier, Respectively. For best performance, it is highly recommended that stray capacitance be kept to an absolute minimum by keeping printed circuit connections as short as (See Datasheet)", 2 VOCM (in) "Output Common Mode Reference Voltage. The VOCM pin is the midpoint of an internal resistive voltage divider between the supplies, developing a (default) mid-supply voltage potential to maximize output signal swing. VOCM has (See Datasheet)", 3 V+ (power) "Power Supply Pins. For single-supply applications (Pin 6 grounded) it is recommended that high quality 1uF and 0.1uF ceramic bypass capacitors be placed from the positive supply pin (Pin 3) to the negative supply pin (Pin 6) (See Datasheet)", 4 OUT+ (oc) "Output Pins. Each pin can drive approximately 100ohm to ground with a short-circuit current limit of up to +/-85mA. Each amplifi er output is designed to drive a load capacitance of 25pF. This basically means the amplifi er (See Datasheet)", 5 OUT- (oc) "Output Pins. Each pin can drive approximately 100ohm to ground with a short-circuit current limit of up to +/-85mA. Each amplifi er output is designed to drive a load capacitance of 25pF. This basically means the amplifi er (See Datasheet)", 6 V- (power) "Power Supply Pins. For single-supply applications (Pin 6 grounded) it is recommended that high quality 1uF and 0.1uF ceramic bypass capacitors be placed from the positive supply pin (Pin 3) to the negative supply pin (Pin 6) (See Datasheet)", 7 ~{SHDN} (in) "When Pin 7 (SHDN) is floating or when Pin 7 is directly tied to V+, the LT1994 is in the normal operating mode. When Pin 7 is pulled a minimum of 2.1V below V+, the LT1994 enters into a low power shutdown state. Refer to the (See Datasheet)", 8 IN+ (in) "Noninverting and Inverting Input Pins of the Amplifier, Respectively. For best performance, it is highly recommended that stray capacitance be kept to an absolute minimum by keeping printed circuit connections as short as (See Datasheet)"

## LT1994IMS8#TRPBF
designator U?
Single Channel, Low Noise, Low Distortion Fully Differential Input / Output Amplifier / Driver, 70 MHz Typical GBW, 65 V/us Typical SR, 2.375 to 12.6 V, 8-Pin SOP (MS8-8), Industrial, Pb-Free, Reel; Linear Technology Part Number: LT1994; Manufacturer: Linear Technology; PartNumber: LT1994IMS8#TRPBF; Channels (#): 1; GBW (MHz) Typical: 70; Is (mA) Typical: 13.3; SR (V/us) Typical: 65; Vos (mV) Guaranteed: 2; Vs Max (V): 12.6; Vs Min (V): 2.375; DatasheetVersion: Rev. B; PackageVersion: Rev G; PackageReference: LT-MS8-8; PackageDescription: 8-Lead Plastic Small Outline, Body 3.9 x 4.9 mm, Pitch 1.27 mm; Supplier 1: Digi-Key; Supplier Part Number 1: LT1994IMS8#TRPBF-ND; Packing: Reel; RoHS: Pb-Free; Type: DIFF; Vos (mV) Typical: 2; Mounting Technology: Surface Mount; ComponentLink1Description: Manufacturer URL; ComponentLink1URL: http://www.linear.com/; ComponentLink2Description: Datasheet; ComponentLink2URL: http://cds.linear.com/docs/en/datasheet/1994fb.pdf; ComponentLink3Description: Package Specification; ComponentLink3URL: http://cds.linear.com/docs/en/packaging/05081610_G_SO8.pdf
footprint LT-MS8-8_N (SOP, 8-Leads, Body 3x3mm, Pitch 0.65mm, IPC Medium Density)
footprint LT-MS8-8_L (SOP, 8-Leads, Body 3x3mm, Pitch 0.65mm, IPC High Density)
footprint LT-MS8-8_M (SOP, 8-Leads, Body 3x3mm, Pitch 0.65mm, IPC Low Density)
pins: 1 IN- (in) "Noninverting and Inverting Input Pins of the Amplifier, Respectively. For best performance, it is highly recommended that stray capacitance be kept to an absolute minimum by keeping printed circuit connections as short as (See Datasheet)", 2 VOCM (in) "Output Common Mode Reference Voltage. The VOCM pin is the midpoint of an internal resistive voltage divider between the supplies, developing a (default) mid-supply voltage potential to maximize output signal swing. VOCM has (See Datasheet)", 3 V+ (power) "Power Supply Pins. For single-supply applications (Pin 6 grounded) it is recommended that high quality 1uF and 0.1uF ceramic bypass capacitors be placed from the positive supply pin (Pin 3) to the negative supply pin (Pin 6) (See Datasheet)", 4 OUT+ (oc) "Output Pins. Each pin can drive approximately 100ohm to ground with a short-circuit current limit of up to +/-85mA. Each amplifi er output is designed to drive a load capacitance of 25pF. This basically means the amplifi er (See Datasheet)", 5 OUT- (oc) "Output Pins. Each pin can drive approximately 100ohm to ground with a short-circuit current limit of up to +/-85mA. Each amplifi er output is designed to drive a load capacitance of 25pF. This basically means the amplifi er (See Datasheet)", 6 V- (power) "Power Supply Pins. For single-supply applications (Pin 6 grounded) it is recommended that high quality 1uF and 0.1uF ceramic bypass capacitors be placed from the positive supply pin (Pin 3) to the negative supply pin (Pin 6) (See Datasheet)", 7 ~{SHDN} (in) "When Pin 7 (SHDN) is floating or when Pin 7 is directly tied to V+, the LT1994 is in the normal operating mode. When Pin 7 is pulled a minimum of 2.1V below V+, the LT1994 enters into a low power shutdown state. Refer to the (See Datasheet)", 8 IN+ (in) "Noninverting and Inverting Input Pins of the Amplifier, Respectively. For best performance, it is highly recommended that stray capacitance be kept to an absolute minimum by keeping printed circuit connections as short as (See Datasheet)"

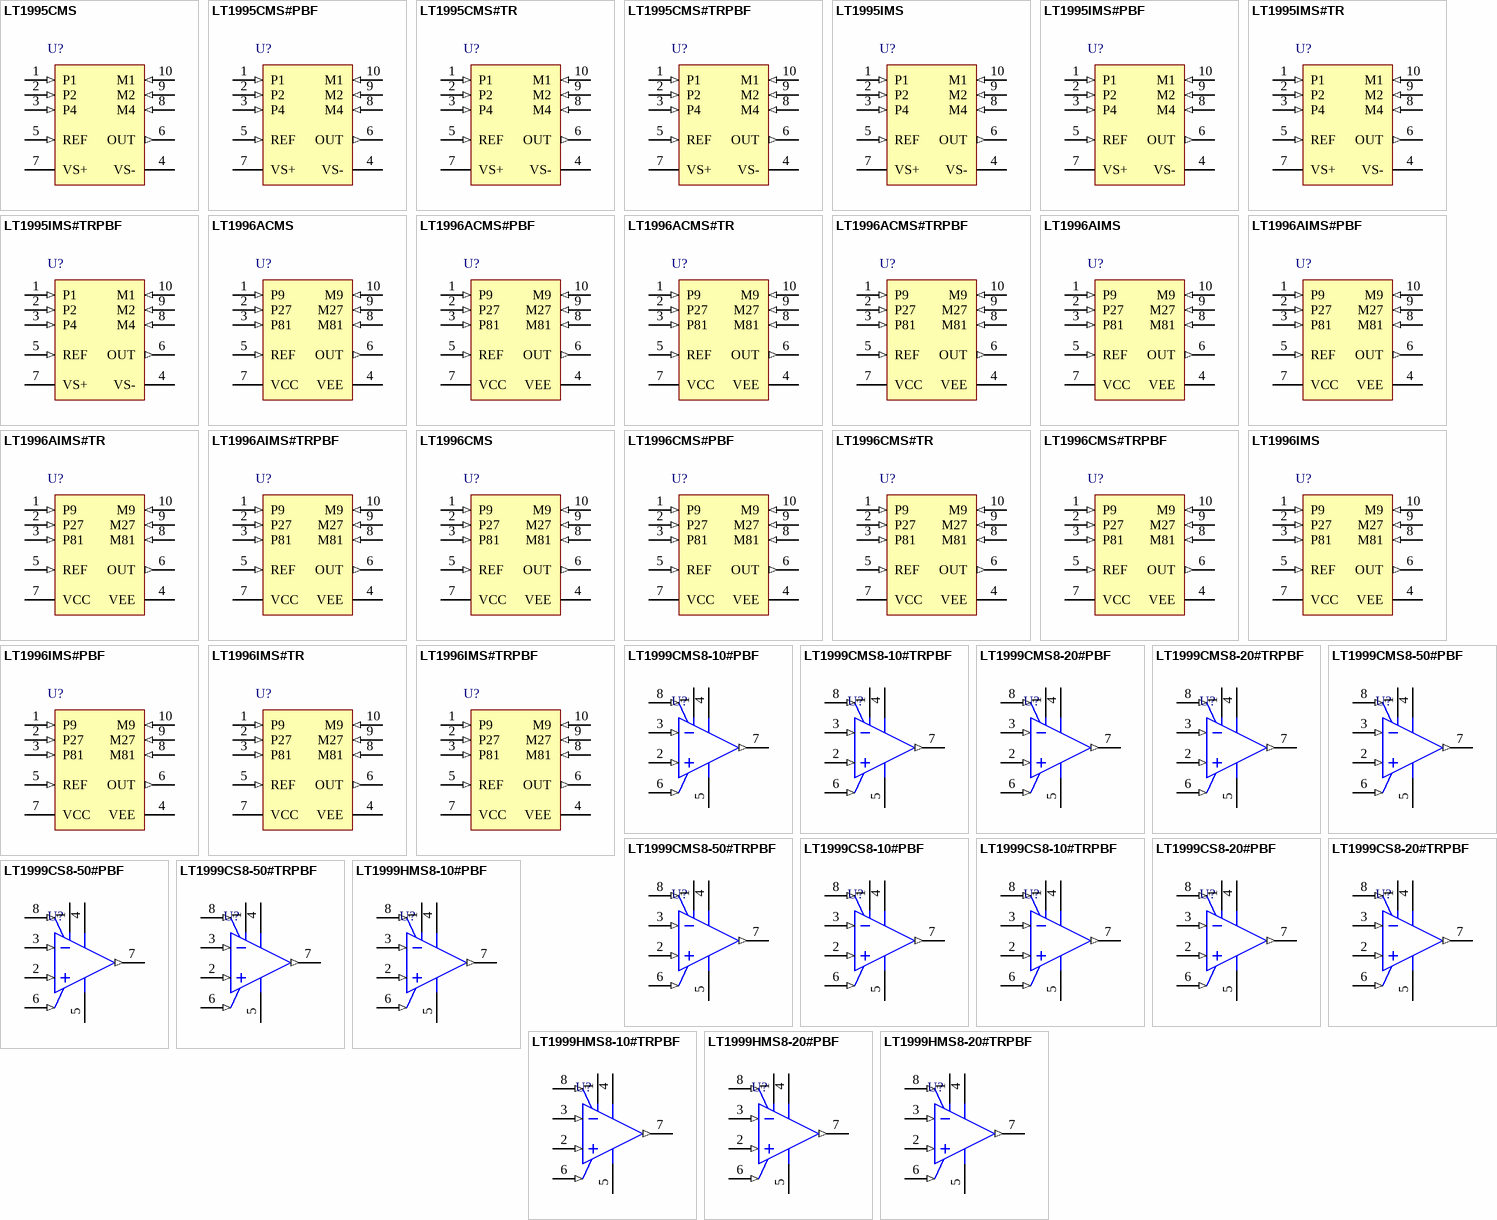
[diagram p99: symbols LT1995CMS to LT1999HMS8-20#TRPBF]

## LT1995CMS
designator U?
Single Channel, Fast Differential Amplifier Integrated Resistors, 24 MHz Typical GBW, 1000 V/us Typical SR, 2.5 to 36 V, 10-Pin SOP (MS-10), Commercial; Linear Technology Part Number: LT1995; Manufacturer: Linear Technology; PartNumber: LT1995CMS; Channels (#): 1; GBW (MHz) Typical: 24; Is (mA) Typical: 6.7; SR (V/us) Typical: 1000; Vos (mV) Guaranteed: 5; Vs Max (V): 36; Vs Min (V): 2.5; DatasheetVersion: Rev. B; PackageVersion: Rev E; PackageReference: LT-MS-10; PackageDescription: 10-Lead Plastic MSOP, Body 3 x 3 mm, Pitch 0.5 mm; Supplier 1: Digi-Key; Supplier Part Number 1: LT1995CMS-ND; Type: SGA; Vos (mV) Typical: 1; Mounting Technology: Surface Mount; ComponentLink1Description: Manufacturer URL; ComponentLink1URL: http://www.linear.com/; ComponentLink2Description: Datasheet; ComponentLink2URL: http://cds.linear.com/docs/en/datasheet/1995fb.pdf; ComponentLink3Description: Package Specification; ComponentLink3URL: http://cds.linear.com/docs/en/packaging/MSOP_10_05-08-1661.pdf
footprint LT-MS-10_N (SOP, 10-Leads, Body 3x3mm, Pitch 0.50mm, IPC Medium Density)
footprint LT-MS-10_L (SOP, 10-Leads, Body 3x3mm, Pitch 0.50mm, IPC High Density)
footprint LT-MS-10_M (SOP, 10-Leads, Body 3x3mm, Pitch 0.50mm, IPC Low Density)
pins: 1 P1 (in) "Noninverting Gain-of-1 Input. Connects a 4k internal resistor to the op amp’s noninverting input.", 2 P2 (in) "Noninverting Gain-of-2 Input. Connects a 2k internal resistor to the op amp’s noninverting input.", 3 P4 (in) "Noninverting Gain-of-4 Input. Connects a 1k internal resistor to the op amp’s noninverting input.", 4 VS- (power) "Negative Supply Voltage.", 5 REF (in) "Reference Voltage. Sets the output level when the difference between the inputs is zero. Connects a 4k internal resistor to the op amp’s non inverting input.", 6 OUT (out) "Output Voltage. VOUT = VREF + 1 • (VP1 - VM1) + 2 • (VP2 - VM2) + 4 • (VP4 - VM4).", 7 VS+ (power) "Positive Supply Voltage.", 8 M4 (in) "Inverting Gain-of-4 Input. Connects a 1k internal resistor to the op amp’s inverting input.", 9 M2 (in) "Inverting Gain-of-2 Input. Connects a 2k internal resistor to the op amp’s inverting input.", 10 M1 (in) "Inverting Gain-of-1 Input. Connects a 4k internal resistor to the op amp’s inverting input."